# EAGLE library part MAX2682 (library rfops)
MAX2682 Downconverter
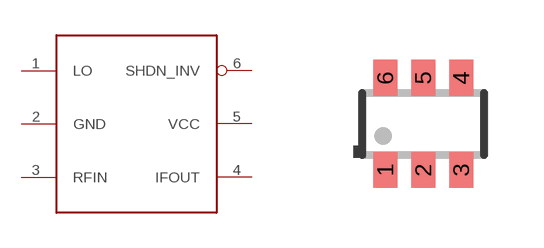
[diagram p19: symbol with the pads of SOT23-6; footprint SOT23-6]

Designator prefix DOWN

## MAX2682  [SOT23-6]
1  LO  in
2  GND  pwr
3  RFIN  in
4  IFOUT  out
5  VCC  pwr
6  SHDN_INV  in

## Footprint SOT23-6 (pad centres in mm)
SOT23-6 Package
smd 0.6 x 0.9: 1 -0.95,-1.15; 2 0,-1.15; 3 0.95,-1.15; 4 0.95,1.15; 5 0,1.15; 6 -0.95,1.15